# Altium schematic symbol library SCH - POWER - LINEAR VREG - TI TPS7B7701-Q1PWP.SchLib: 1 symbol
Pins are listed as number, name and electrical type; pins without a type are passive.

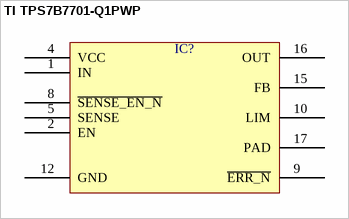
[diagram p0: symbol TI TPS7B7701-Q1PWP]

## TI TPS7B7701-Q1PWP
designator IC?  (value not drawn)
pins: 1 IN, 2 EN, 4 VCC, 5 SENSE, 8 ~{SENSE_EN_N}, 9 ~{ERR_N}, 10 LIM, 12 GND, 15 FB, 16 OUT, 17 PAD